# Altium footprint library burr-brown.PCBLIB: 61 footprints (part 4 of 4)
Each footprint in its own frame and in the unit in brackets; x right, y up, seen from the top. Pads: shape width x height; smd on the part's side, far side on the other; paste and mask are expansions set on the pad; w line width, h text height; cw(c..) or ccw(c..) is an arc to the next point about the centre after c.
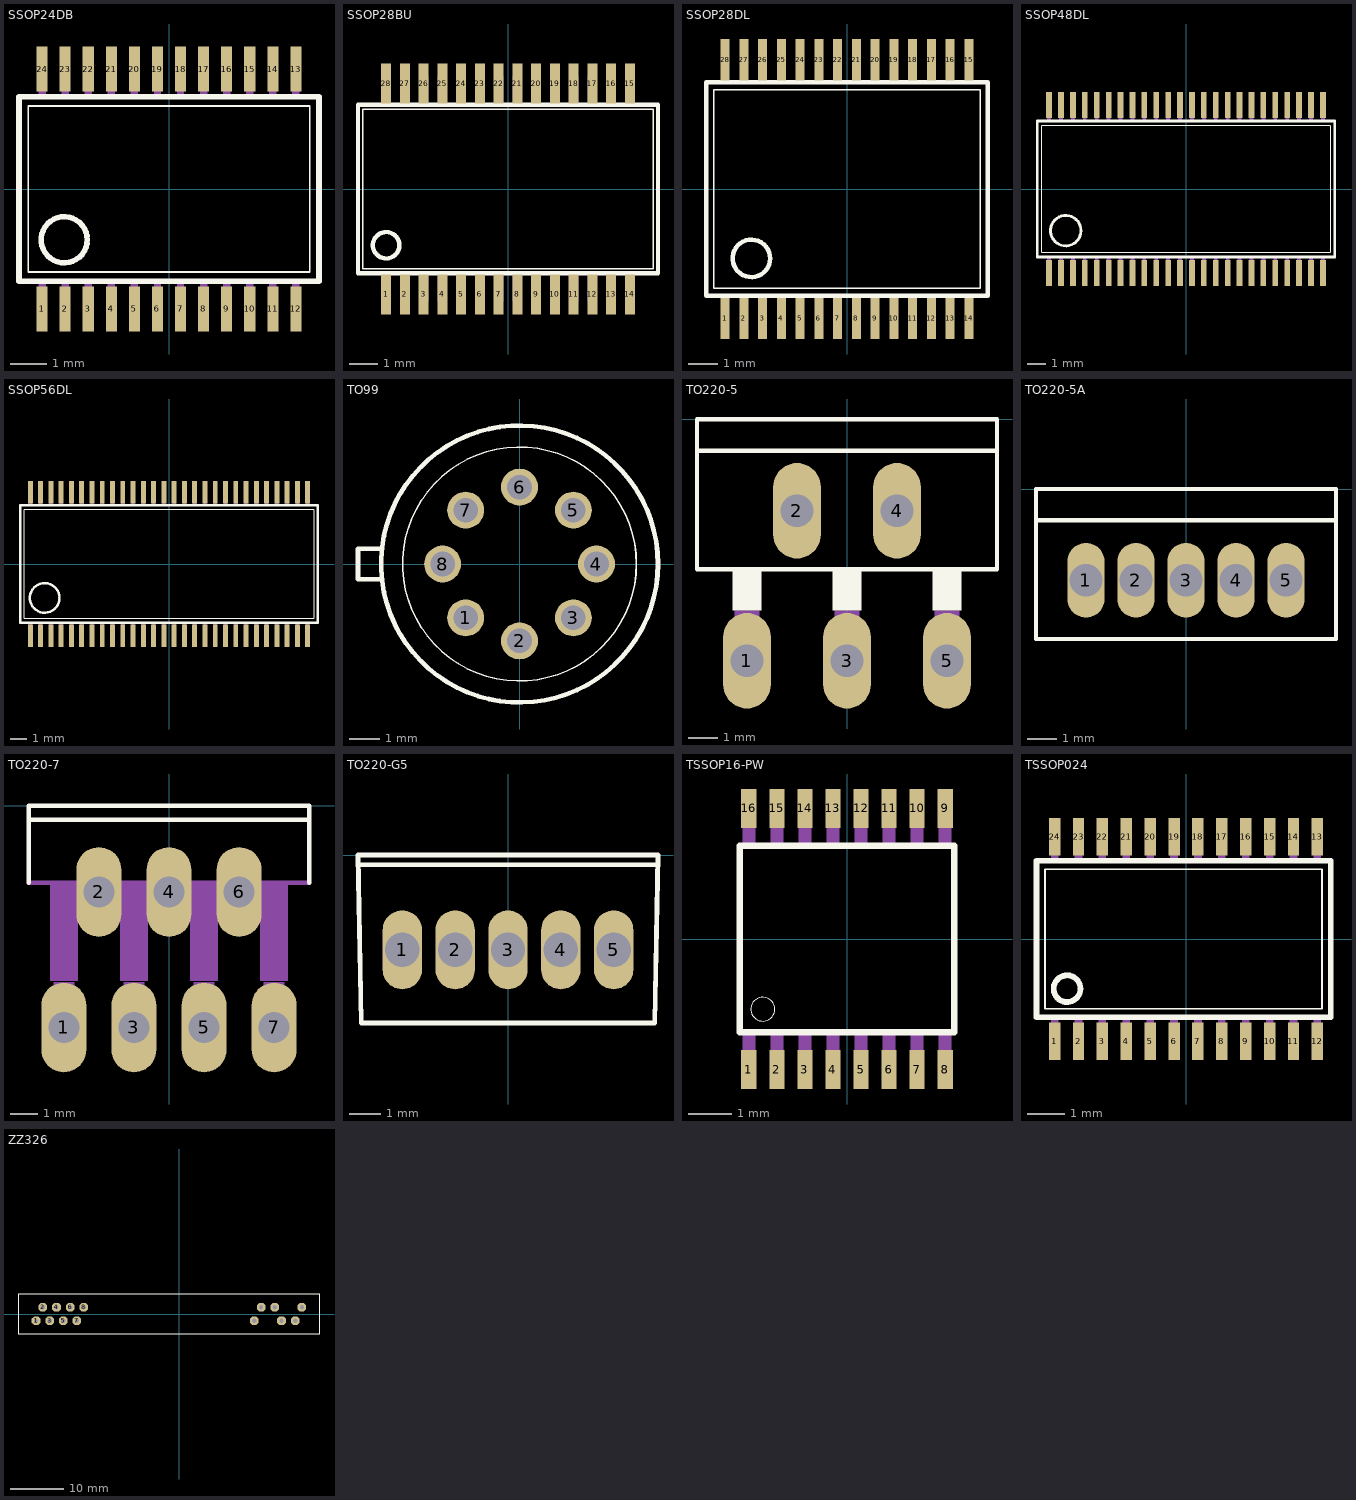
[diagram p3: the footprints below, top view; thin cyan lines are the x and y axes]

## SSOP24DB [mil]
pads (24):
  rect 12x49 smd: 1(-137.5,-130) 2(-112.5,-130) 3(-87.5,-130) 4(-62.5,-130) 5(-37.5,-130) 6(-12.5,-130) 7(12.5,-130) 8(37.5,-130) 9(62.5,-130) 10(87.5,-130) 11(112.5,-130) 12(137.5,-130) 13(137.5,130) 14(112.5,130) 15(87.5,130) 16(62.5,130) 17(37.5,130) 18(12.5,130) 19(-12.5,130) 20(-37.5,130) 21(-62.5,130) 22(-87.5,130) 23(-112.5,130) 24(-137.5,130)
Top Overlay:
  circle w6: c-113.5,-55 r25
  lines w2: -152.52,-90 152.52,-90 152.52,90 -152.52,90 -152.52,-90
  lines w6: -162.52,-99.84 162.52,-99.84 162.52,99.84 -162.52,99.84 -162.52,-99.84
Mechanical 16:
  rectangle: -141.5,102 -133.5,135
  rectangle: -116.5,102 -108.5,135
  rectangle: -91.5,102 -83.5,135
  rectangle: -66.5,102 -58.5,135
  rectangle: -41.5,102 -33.5,135
  rectangle: -16.5,102 -8.5,135
  rectangle: 8.5,102 16.5,135
  rectangle: 33.5,102 41.5,135
  rectangle: 58.5,102 66.5,135
  rectangle: 83.5,102 91.5,135
  rectangle: 108.5,102 116.5,135
  rectangle: 133.5,102 141.5,135
  rectangle: 133.5,-135 141.5,-102
  rectangle: 108.5,-135 116.5,-102
  rectangle: 83.5,-135 91.5,-102
  rectangle: 58.5,-135 66.5,-102
  rectangle: 33.5,-135 41.5,-102
  rectangle: 8.5,-135 16.5,-102
  rectangle: -16.5,-135 -8.5,-102
  rectangle: -41.5,-135 -33.5,-102
  rectangle: -66.5,-135 -58.5,-102
  rectangle: -91.5,-135 -83.5,-102
  rectangle: -116.5,-135 -108.5,-102
  rectangle: -141.5,-135 -133.5,-102

## SSOP28BU [mil]
pads (28):
  rect 13.7x55 smd: 1(-166.34,-143.94) 2(-140.75,-143.94) 3(-115.16,-143.94) 4(-89.57,-143.94) 5(-63.98,-143.94) 6(-38.39,-143.94) 7(-12.8,-143.94) 8(12.8,-143.94) 9(38.39,-143.94) 10(63.98,-143.94) 11(89.57,-143.94) 12(115.16,-143.94) 13(140.75,-143.94) 14(166.34,-143.94) 15(166.34,143.94) 16(140.75,143.94) 17(115.16,143.94) 18(89.57,143.94) 19(63.98,143.94) 20(38.39,143.94) 21(12.8,143.94) 22(-12.8,143.94) 23(-38.39,143.94) 24(-63.98,143.94) 25(-89.57,143.94) 26(-115.16,143.94) 27(-140.75,143.94) 28(-166.34,143.94)
Top Overlay:
  circle w6: c-166.34,-76.77 r18.09
  lines w2: -198.35,-108.78 198.35,-108.78 198.35,108.78 -198.35,108.78 -198.35,-108.78
  lines w6: -204.72,-115.16 204.72,-115.16 204.72,115.16 -204.72,115.16 -204.72,-115.16
Mechanical 16:
  rectangle: -172.74,116.76 -159.94,153.54
  rectangle: -172.74,-153.54 -159.94,-116.76
  rectangle: -147.15,-153.54 -134.35,-116.76
  rectangle: -121.56,-153.54 -108.76,-116.76
  rectangle: -147.15,116.76 -134.35,153.54
  rectangle: -121.56,116.76 -108.76,153.54
  rectangle: -95.96,116.76 -83.17,153.54
  rectangle: -70.37,116.76 -57.58,153.54
  rectangle: -44.78,116.76 -31.99,153.54
  rectangle: -19.19,116.76 -6.4,153.54
  rectangle: 6.4,116.76 19.19,153.54
  rectangle: 31.99,116.76 44.78,153.54
  rectangle: 57.58,116.76 70.37,153.54
  rectangle: 83.17,116.76 95.96,153.54
  rectangle: 108.76,116.76 121.56,153.54
  rectangle: 134.35,116.76 147.15,153.54
  rectangle: 159.94,116.76 172.74,153.54
  rectangle: -95.96,-153.54 -83.17,-116.76
  rectangle: -70.37,-153.54 -57.58,-116.76
  rectangle: -44.78,-153.54 -31.99,-116.76
  rectangle: -19.19,-153.54 -6.4,-116.76
  rectangle: 6.4,-153.54 19.19,-116.76
  rectangle: 31.99,-153.54 44.78,-116.76
  rectangle: 57.58,-153.54 70.37,-116.76
  rectangle: 83.17,-153.54 95.96,-116.76
  rectangle: 108.76,-153.54 121.56,-116.76
  rectangle: 134.35,-153.54 147.15,-116.76
  rectangle: 159.94,-153.54 172.74,-116.76

## SSOP28DL [mil]
pads (28):
  rect 12x55 smd: 1(-162.5,-172.5) 2(-137.5,-172.5) 3(-112.5,-172.5) 4(-87.5,-172.5) 5(-62.5,-172.5) 6(-37.5,-172.5) 7(-12.5,-172.5) 8(12.5,-172.5) 9(37.5,-172.5) 10(62.5,-172.5) 11(87.5,-172.5) 12(112.5,-172.5) 13(137.5,-172.5) 14(162.5,-172.5) 15(162.5,172.5) 16(137.5,172.5) 17(112.5,172.5) 18(87.5,172.5) 19(62.5,172.5) 20(37.5,172.5) 21(12.5,172.5) 22(-12.5,172.5) 23(-37.5,172.5) 24(-62.5,172.5) 25(-87.5,172.5) 26(-112.5,172.5) 27(-137.5,172.5) 28(-162.5,172.5)
Top Overlay:
  circle w6: c-127.5,-92.5 r25
  lines w2: -177.52,-132.52 177.52,-132.52 177.52,132.52 -177.52,132.52 -177.52,-132.52
  lines w6: -187.52,-142.52 187.52,-142.52 187.52,142.52 -187.52,142.52 -187.52,-142.52
Mechanical 16:
  rectangle: -166.5,144.5 -158.5,177.5
  rectangle: -141.5,144.5 -133.5,177.5
  rectangle: -116.5,144.5 -108.5,177.5
  rectangle: -91.5,144.5 -83.5,177.5
  rectangle: -66.5,144.5 -58.5,177.5
  rectangle: -41.5,144.5 -33.5,177.5
  rectangle: -16.5,144.5 -8.5,177.5
  rectangle: 8.5,144.5 16.5,177.5
  rectangle: 33.5,144.5 41.5,177.5
  rectangle: 58.5,144.5 66.5,177.5
  rectangle: 83.5,144.5 91.5,177.5
  rectangle: 108.5,144.5 116.5,177.5
  rectangle: 133.5,144.5 141.5,177.5
  rectangle: 158.5,144.5 166.5,177.5
  rectangle: 158.5,-177.5 166.5,-144.5
  rectangle: 133.5,-177.5 141.5,-144.5
  rectangle: 108.5,-177.5 116.5,-144.5
  rectangle: 83.5,-177.5 91.5,-144.5
  rectangle: 58.5,-177.5 66.5,-144.5
  rectangle: 33.5,-177.5 41.5,-144.5
  rectangle: 8.5,-177.5 16.5,-144.5
  rectangle: -16.5,-177.5 -8.5,-144.5
  rectangle: -41.5,-177.5 -33.5,-144.5
  rectangle: -66.5,-177.5 -58.5,-144.5
  rectangle: -91.5,-177.5 -83.5,-144.5
  rectangle: -116.5,-177.5 -108.5,-144.5
  rectangle: -141.5,-177.5 -133.5,-144.5
  rectangle: -166.5,-177.5 -158.5,-144.5

## SSOP48DL [mil]
pads (48):
  rect 12x55 smd: 1(-287.5,-176.5) 2(-262.5,-176.5) 3(-237.5,-176.5) 4(-212.5,-176.5) 5(-187.5,-176.5) 6(-162.5,-176.5) 7(-137.5,-176.5) 8(-112.5,-176.5) 9(-87.5,-176.5) 10(-62.5,-176.5) 11(-37.5,-176.5) 12(-12.5,-176.5) 13(12.5,-176.5) 14(37.5,-176.5) 15(62.5,-176.5) 16(87.5,-176.5) 17(112.5,-176.5) 18(137.5,-176.5) 19(162.5,-176.5) 20(187.5,-176.5) 21(212.5,-176.5) 22(237.5,-176.5) 23(262.5,-176.5) 24(287.5,-176.5) 25(287.5,176.5) 26(262.5,176.5) 27(237.5,176.5) 28(212.5,176.5) 29(187.5,176.5) 30(162.5,176.5) 31(137.5,176.5) 32(112.5,176.5) 33(87.5,176.5) 34(62.5,176.5) 35(37.5,176.5) 36(12.5,176.5) 37(-12.5,176.5) 38(-37.5,176.5) 39(-62.5,176.5) 40(-87.5,176.5) 41(-112.5,176.5) 42(-137.5,176.5) 43(-162.5,176.5) 44(-187.5,176.5) 45(-212.5,176.5) 46(-237.5,176.5) 47(-262.5,176.5) 48(-287.5,176.5)
Top Overlay:
  circle w6: c-252.5,-87.5 r32
  lines w2: -302.52,-132.52 302.52,-132.52 302.52,132.52 -302.52,132.52 -302.52,-132.52
  lines w6: -312.52,-142.52 312.52,-142.52 312.52,142.52 -312.52,142.52 -312.52,-142.52
Mechanical 16:
  rectangle: -291.5,144.5 -283.5,177.5
  rectangle: -266.5,144.5 -258.5,177.5
  rectangle: -241.5,144.5 -233.5,177.5
  rectangle: -216.5,144.5 -208.5,177.5
  rectangle: -191.5,144.5 -183.5,177.5
  rectangle: -166.5,144.5 -158.5,177.5
  rectangle: -141.5,144.5 -133.5,177.5
  rectangle: -116.5,144.5 -108.5,177.5
  rectangle: -91.5,144.5 -83.5,177.5
  rectangle: -66.5,144.5 -58.5,177.5
  rectangle: -41.5,144.5 -33.5,177.5
  rectangle: -16.5,144.5 -8.5,177.5
  rectangle: 8.5,144.5 16.5,177.5
  rectangle: 33.5,144.5 41.5,177.5
  rectangle: 58.5,144.5 66.5,177.5
  rectangle: 83.5,144.5 91.5,177.5
  rectangle: 108.5,144.5 116.5,177.5
  rectangle: 133.5,144.5 141.5,177.5
  rectangle: 158.5,144.5 166.5,177.5
  rectangle: 183.5,144.5 191.5,177.5
  rectangle: 208.5,144.5 216.5,177.5
  rectangle: 233.5,144.5 241.5,177.5
  rectangle: 258.5,144.5 266.5,177.5
  rectangle: 283.5,144.5 291.5,177.5
  rectangle: 283.5,-177.5 291.5,-144.5
  rectangle: 258.5,-177.5 266.5,-144.5
  rectangle: 233.5,-177.5 241.5,-144.5
  rectangle: 208.5,-177.5 216.5,-144.5
  rectangle: 183.5,-177.5 191.5,-144.5
  rectangle: 158.5,-177.5 166.5,-144.5
  rectangle: 133.5,-177.5 141.5,-144.5
  rectangle: 108.5,-177.5 116.5,-144.5
  rectangle: 83.5,-177.5 91.5,-144.5
  rectangle: 58.5,-177.5 66.5,-144.5
  rectangle: 33.5,-177.5 41.5,-144.5
  rectangle: 8.5,-177.5 16.5,-144.5
  rectangle: -16.5,-177.5 -8.5,-144.5
  rectangle: -41.5,-177.5 -33.5,-144.5
  rectangle: -66.5,-177.5 -58.5,-144.5
  rectangle: -91.5,-177.5 -83.5,-144.5
  rectangle: -116.5,-177.5 -108.5,-144.5
  rectangle: -141.5,-177.5 -133.5,-144.5
  rectangle: -166.5,-177.5 -158.5,-144.5
  rectangle: -191.5,-177.5 -183.5,-144.5
  rectangle: -216.5,-177.5 -208.5,-144.5
  rectangle: -241.5,-177.5 -233.5,-144.5
  rectangle: -266.5,-177.5 -258.5,-144.5
  rectangle: -291.5,-177.5 -283.5,-144.5

## SSOP56DL [mil]
pads (56):
  rect 12x55 smd: 1(-337.5,-174.5) 2(-312.5,-174.5) 3(-287.5,-174.5) 4(-262.5,-174.5) 5(-237.5,-174.5) 6(-212.5,-174.5) 7(-187.5,-174.5) 8(-162.5,-174.5) 9(-137.5,-174.5) 10(-112.5,-174.5) 11(-87.5,-174.5) 12(-62.5,-174.5) 13(-37.5,-174.5) 14(-12.5,-174.5) 15(12.5,-174.5) 16(37.5,-174.5) 17(62.5,-174.5) 18(87.5,-174.5) 19(112.5,-174.5) 20(137.5,-174.5) 21(162.5,-174.5) 22(187.5,-174.5) 23(212.5,-174.5) 24(237.5,-174.5) 25(262.5,-174.5) 26(287.5,-174.5) 27(312.5,-174.5) 28(337.5,-174.5) 29(337.5,174.5) 30(312.5,174.5) 31(287.5,174.5) 32(262.5,174.5) 33(237.5,174.5) 34(212.5,174.5) 35(187.5,174.5) 36(162.5,174.5) 37(137.5,174.5) 38(112.5,174.5) 39(87.5,174.5) 40(62.5,174.5) 41(37.5,174.5) 42(12.5,174.5) 43(-12.5,174.5) 44(-37.5,174.5) 45(-62.5,174.5) 46(-87.5,174.5) 47(-112.5,174.5) 48(-137.5,174.5) 49(-162.5,174.5) 50(-187.5,174.5) 51(-212.5,174.5) 52(-237.5,174.5) 53(-262.5,174.5) 54(-287.5,174.5) 55(-312.5,174.5) 56(-337.5,174.5)
Top Overlay:
  circle w6: c-302.5,-82.5 r36
  lines w2: -352.52,-132.52 352.52,-132.52 352.52,132.52 -352.52,132.52 -352.52,-132.52
  lines w6: -362.52,-142.52 362.52,-142.52 362.52,142.52 -362.52,142.52 -362.52,-142.52
Mechanical 16:
  rectangle: 333.5,144.5 341.5,177.5
  rectangle: 308.5,144.5 316.5,177.5
  rectangle: 283.5,144.5 291.5,177.5
  rectangle: 258.5,144.5 266.5,177.5
  rectangle: 233.5,144.5 241.5,177.5
  rectangle: 208.5,144.5 216.5,177.5
  rectangle: 208.5,144.5 216.5,177.5
  rectangle: 183.5,144.5 191.5,177.5
  rectangle: 158.5,144.5 166.5,177.5
  rectangle: 133.5,144.5 141.5,177.5
  rectangle: 108.5,144.5 116.5,177.5
  rectangle: 108.5,144.5 116.5,177.5
  rectangle: 83.5,144.5 91.5,177.5
  rectangle: 58.5,144.5 66.5,177.5
  rectangle: 33.5,144.5 41.5,177.5
  rectangle: 8.5,144.5 16.5,177.5
  rectangle: 8.5,144.5 16.5,177.5
  rectangle: -16.5,144.5 -8.5,177.5
  rectangle: -41.5,144.5 -33.5,177.5
  rectangle: -66.5,144.5 -58.5,177.5
  rectangle: -91.5,144.5 -83.5,177.5
  rectangle: -91.5,144.5 -83.5,177.5
  rectangle: -116.5,144.5 -108.5,177.5
  rectangle: -141.5,144.5 -133.5,177.5
  rectangle: -166.5,144.5 -158.5,177.5
  rectangle: -191.5,144.5 -183.5,177.5
  rectangle: -191.5,144.5 -183.5,177.5
  rectangle: -216.5,144.5 -208.5,177.5
  rectangle: -241.5,144.5 -233.5,177.5
  rectangle: -266.5,144.5 -258.5,177.5
  rectangle: -291.5,144.5 -283.5,177.5
  rectangle: -316.5,144.5 -308.5,177.5
  rectangle: -341.5,144.5 -333.5,177.5
  rectangle: -341.5,-177.5 -333.5,-144.5
  rectangle: -316.5,-177.5 -308.5,-144.5
  rectangle: -291.5,-177.5 -283.5,-144.5
  rectangle: -266.5,-177.5 -258.5,-144.5
  rectangle: -241.5,-177.5 -233.5,-144.5
  rectangle: -216.5,-177.5 -208.5,-144.5
  rectangle: -216.5,-177.5 -208.5,-144.5
  rectangle: -191.5,-177.5 -183.5,-144.5
  rectangle: -166.5,-177.5 -158.5,-144.5
  rectangle: -141.5,-177.5 -133.5,-144.5
  rectangle: -116.5,-177.5 -108.5,-144.5
  rectangle: -116.5,-177.5 -108.5,-144.5
  rectangle: -91.5,-177.5 -83.5,-144.5
  rectangle: -66.5,-177.5 -58.5,-144.5
  rectangle: -41.5,-177.5 -33.5,-144.5
  rectangle: -16.5,-177.5 -8.5,-144.5
  rectangle: -16.5,-177.5 -8.5,-144.5
  rectangle: 8.5,-177.5 16.5,-144.5
  rectangle: 33.5,-177.5 41.5,-144.5
  rectangle: 58.5,-177.5 66.5,-144.5
  rectangle: 58.5,-177.5 66.5,-144.5
  rectangle: 83.5,-177.5 91.5,-144.5
  rectangle: 108.5,-177.5 116.5,-144.5
  rectangle: 133.5,-177.5 141.5,-144.5
  rectangle: 158.5,-177.5 166.5,-144.5
  rectangle: 158.5,-177.5 166.5,-144.5
  rectangle: 183.5,-177.5 191.5,-144.5
  rectangle: 208.5,-177.5 216.5,-144.5
  rectangle: 233.5,-177.5 241.5,-144.5
  rectangle: 258.5,-177.5 266.5,-144.5
  rectangle: 258.5,-177.5 266.5,-144.5
  rectangle: 283.5,-177.5 291.5,-144.5
  rectangle: 308.5,-177.5 316.5,-144.5
  rectangle: 333.5,-177.5 341.5,-144.5

## TO99 [mil]
pads (8):
  round 48 hole 32: 1(-70,-70) 2(0,-100) 3(70,-70) 4(100,0) 5(70,70) 6(0,100) 7(-70,70) 8(-100,0)
Top Overlay:
  circle w6: c0,0 r180
  circle w2: c0,0 r152
  lines w6: -180,-20 -210,-20 -210,20 -180,20

## TO220-5 [mil]
pads (5):
  oval 64x128 hole 44: 1(-134,-323.26) 2(-67,-122.26) 3(0,-323.26) 4(67,-122.26) 5(134,-323.26)
Top Overlay:
  rectangle: -153.61,-255.91 -114.24,-202.76
  rectangle: -19.76,-255.91 19.61,-202.76
  rectangle: 114.24,-255.91 153.61,-202.76
  lines w6: -200.98,-41.89 -200.98,-200.98 200.98,-200.98 200.98,-41.89 ; -200.98,-41.89 -200.98,0 200.98,0 200.98,-41.89 ; -200.98,-41.89 200.98,-41.89
Mechanical 16:
  rectangle: -150.75,-323.26 -117.25,-256.26
  rectangle: -16.75,-323.26 16.75,-256.26
  rectangle: 117.25,-323.26 150.75,-256.26

## TO220-5A [mil]
pads (5):
  oval 50x100 hole 44: 1(-134,-122.26) 2(-67,-122.26) 3(0,-122.26) 4(67,-122.26) 5(134,-122.26)
Top Overlay:
  lines w6: -200.98,-41.89 -200.98,-200.98 200.98,-200.98 200.98,-41.89 ; -200.98,-41.89 -200.98,0 200.98,0 200.98,-41.89 ; -200.98,-41.89 200.98,-41.89

## TO220-7 [mil]
pads (7):
  oval 64x128 hole 44: 1(-150,-316.38) 2(-100,-123.07) 3(-50,-316.38) 4(0,-123.07) 5(50,-316.38) 6(100,-123.07) 7(150,-316.38)
Top Overlay:
  lines w6: -200,-110 -200,-20 ; 200,-110 200,-20 ; -200,-20 -200,0 200,0 200,-20 ; -200,-20 200,-20
Mechanical 16:
  rectangle: -165,-326.38 -135,-251.38
  rectangle: -65,-326.38 -35,-251.38
  rectangle: 35,-326.38 65,-251.38
  rectangle: -170,-250 -130,-110
  rectangle: -70,-250 -30,-110
  rectangle: 30,-250 70,-110
  rectangle: 135,-326.38 165,-251.38
  rectangle: -120,-125 -80,-110
  rectangle: -20,-125 20,-110
  rectangle: 80,-125 120,-110
  rectangle: 130,-250 170,-110
  lines w6: -200,-110 200,-110

## TO220-G5 [mil]
pads (5):
  oval 50x100 hole 43.31: 1(-133.86,-120) 2(-66.93,-120) 3(0,-120) 4(66.93,-120) 5(133.86,-120)
Top Overlay:
  lines w6: -189.84,-12.32 189.84,-12.32 ; -190,0.2 190,0.2 185.79,-212.83 -185.79,-212.83 -190,0.2

## TSSOP16-PW [mm]
pads (16):
  rect 0.35x0.9 smd: 1(-2.275,-3.025) 2(-1.625,-3.025) 3(-0.975,-3.025) 4(-0.325,-3.025) 5(0.325,-3.025) 6(0.975,-3.025) 7(1.625,-3.025) 8(2.275,-3.025) 9(2.275,3.025) 10(1.625,3.025) 11(0.975,3.025) 12(0.325,3.025) 13(-0.325,3.025) 14(-0.975,3.025) 15(-1.625,3.025) 16(-2.275,3.025)
Top Overlay:
  circle w0: c-1.95,-1.625 r0.276
  lines w0.152: -2.481,-2.158 2.48,-2.158 2.48,2.158 -2.481,2.158 -2.481,-2.158
Mechanical 16:
  rectangle: -2.425,-3.325 -2.125,-2.225
  rectangle: -1.775,-3.325 -1.475,-2.225
  rectangle: -1.125,-3.325 -0.825,-2.225
  rectangle: -0.475,-3.325 -0.175,-2.225
  rectangle: 0.175,-3.325 0.475,-2.225
  rectangle: 0.825,-3.325 1.125,-2.225
  rectangle: 1.475,-3.325 1.775,-2.225
  rectangle: 2.125,-3.325 2.425,-2.225
  region: 2.425,3.325 2.125,3.325 2.125,2.225 2.425,2.225
  region: 1.775,3.325 1.475,3.325 1.475,2.225 1.775,2.225
  region: 1.125,3.325 0.825,3.325 0.825,2.225 1.125,2.225
  region: 0.475,3.325 0.175,3.325 0.175,2.225 0.475,2.225
  region: -0.175,3.325 -0.475,3.325 -0.475,2.225 -0.175,2.225
  region: -0.825,3.325 -1.125,3.325 -1.125,2.225 -0.825,2.225
  region: -1.475,3.325 -1.775,3.325 -1.775,2.225 -1.475,2.225
  region: -2.125,3.325 -2.425,3.325 -2.425,2.225 -2.125,2.225

## TSSOP024 [mil]
pads (24):
  rect 12x39 smd: 1(-137.5,-107) 2(-112.5,-107) 3(-87.5,-107) 4(-62.5,-107) 5(-37.5,-107) 6(-12.5,-107) 7(12.5,-107) 8(37.5,-107) 9(62.5,-107) 10(87.5,-107) 11(112.5,-107) 12(137.5,-107) 13(137.5,107) 14(112.5,107) 15(87.5,107) 16(62.5,107) 17(37.5,107) 18(12.5,107) 19(-12.5,107) 20(-37.5,107) 21(-62.5,107) 22(-87.5,107) 23(-112.5,107) 24(-137.5,107)
Top Overlay:
  circle w6: c-124.5,-52 r14
  lines w2: -147.52,-72.99 142.52,-72.99 142.52,72.99 -147.52,72.99 -147.52,-72.99
  lines w6: -156.5,-82.01 151.5,-82.01 151.5,82.01 -156.5,82.01 -156.5,-82.01
Mechanical 16:
  rectangle: -141.5,-116 -133.5,-83
  rectangle: -116.5,-116 -108.5,-83
  rectangle: -91.5,-116 -83.5,-83
  rectangle: -66.5,-116 -58.5,-83
  rectangle: -41.5,-116 -33.5,-83
  rectangle: -16.5,-116 -8.5,-83
  rectangle: 8.5,-116 16.5,-83
  rectangle: 33.5,-116 41.5,-83
  rectangle: 58.5,-116 66.5,-83
  rectangle: 83.5,-116 91.5,-83
  rectangle: 108.5,-116 116.5,-83
  rectangle: 133.5,-116 141.5,-83
  rectangle: 133.5,83 141.5,116
  rectangle: 108.5,83 116.5,116
  rectangle: 83.5,83 91.5,116
  rectangle: 83.5,83 91.5,116
  rectangle: 58.5,83 66.5,116
  rectangle: 33.5,83 41.5,116
  rectangle: 33.5,83 41.5,116
  rectangle: 8.5,83 16.5,116
  rectangle: -16.5,83 -8.5,116
  rectangle: -41.5,83 -33.5,116
  rectangle: -41.5,83 -33.5,116
  rectangle: -66.5,83 -58.5,116
  rectangle: -91.5,83 -83.5,116
  rectangle: -91.5,83 -83.5,116
  rectangle: -116.5,83 -108.5,116
  rectangle: -141.5,83 -133.5,116

## ZZ326 [mil]
pads (14):
  oct 63x63 hole 32: 1(-1050,-50) 2(-1000,50) 3(-950,-50) 4(-900,50) 5(-850,-50) 6(-800,50) 7(-750,-50) 8(-700,50) 31(550,-50) 32(600,50) 34(700,50) 35(750,-50) 37(850,-50) 38(900,50)
Top Overlay:
  lines w6: -1175,-150 -1175,150 1025,150 1025,-150 -1175,-150